# EAGLE library part 74HC4067 (library HelaTronix - IC Special Functions)
High-Speed CMOS Logic 16-Channel Analog Multiplexer/Demultiplexer
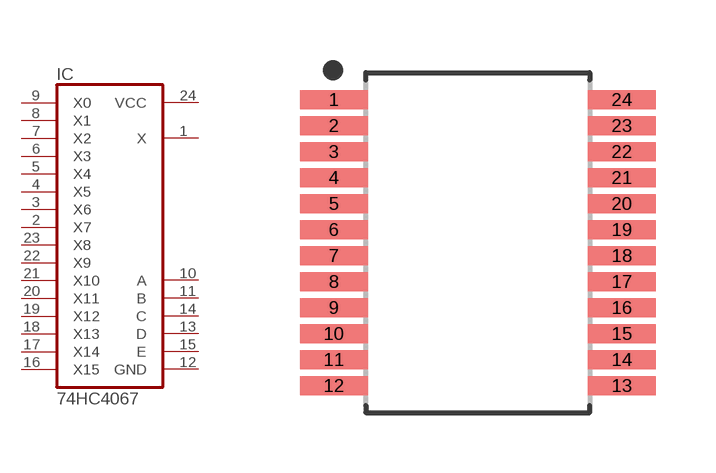
[diagram p16: symbol with the pads of SO24-P65P780X200-24N; footprint SO24-P65P780X200-24N]

Designator prefix IC

## 74HC4067 (LCSC#: C98457; LCSC_LINK: https://lcsc.com/product-detail/Analog-Switches_Texas-Instruments-Texas-Instruments-CD74HC4067SM96_C98457.html; MANUFACTURER: Texas Instruments; MFR#: CD74HC4067SM96)  [SO24-P65P780X200-24N]
1  X  out
2  X7  in
3  X6  in
4  X5  in
5  X4  in
6  X3  in
7  X2  in
8  X1  in
9  X0  in
10  A  in
11  B  in
12  GND  in
13  D  in
14  C  in
15  E  in
16  X15  in
17  X14  in
18  X13  in
19  X12  in
20  X11  in
21  X10  in
22  X9  in
23  X8  in
24  VCC  in

## Footprint SO24-P65P780X200-24N (pad centres in mm)
24-SOP, 0.65 mm pitch, 7.80 mm span, 8.20 X 5.30 X 2.00 mm body 24-pin SOP package with 0.65 mm pitch, 7.80 mm span with body size 8.20 X 5.30 X 2.00 mm
smd 1.702 x 0.475: 1 -3.603,3.575; 2 -3.603,2.925; 3 -3.603,2.275; 4 -3.603,1.625; 5 -3.603,0.975; 6 -3.603,0.325; 7 -3.603,-0.325; 8 -3.603,-0.975; 9 -3.603,-1.625; 10 -3.603,-2.275; 11 -3.603,-2.925; 12 -3.603,-3.575; 13 3.603,-3.575; 14 3.603,-2.925; 15 3.603,-2.275; 16 3.603,-1.625; 17 3.603,-0.975; 18 3.603,-0.325; 19 3.603,0.325; 20 3.603,0.975; 21 3.603,1.625; 22 3.603,2.275; 23 3.603,2.925; 24 3.603,3.575